# EAGLE library part MSP430G2213IPW28R (library mylbr)
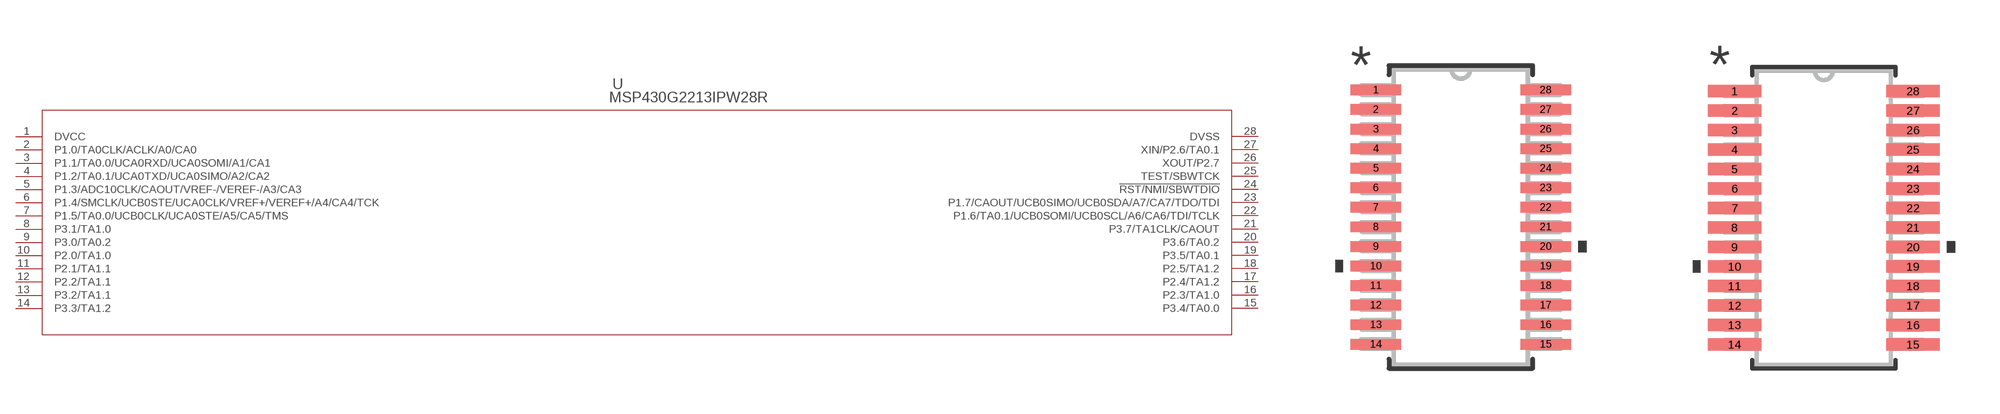
[diagram p5: symbol with the pads of PW28; footprints PW28, PW28-M]

Designator prefix U

## MSP430G2213IPW28R (BUILT_BY: EMA_UL_Team; MANUFACTURER: Texas Instruments; MANUFACTURER_PART_NUMBER: MSP430G2213IPW28R; VENDOR: Texas Instruments)  [PW28]
1  DVCC  pwr
2  P1.0/TA0CLK/ACLK/A0/CA0
3  P1.1/TA0.0/UCA0RXD/UCA0SOMI/A1/CA1
4  P1.2/TA0.1/UCA0TXD/UCA0SIMO/A2/CA2
5  P1.3/ADC10CLK/CAOUT/VREF-/VEREF-/A3/CA3
6  P1.4/SMCLK/UCB0STE/UCA0CLK/VREF+/VEREF+/A4/CA4/TCK
7  P1.5/TA0.0/UCB0CLK/UCA0STE/A5/CA5/TMS
8  P3.1/TA1.0
9  P3.0/TA0.2
10  P2.0/TA1.0
11  P2.1/TA1.1
12  P2.2/TA1.1
13  P3.2/TA1.1
14  P3.3/TA1.2
15  P3.4/TA0.0
16  P2.3/TA1.0
17  P2.4/TA1.2
18  P2.5/TA1.2
19  P3.5/TA0.1
20  P3.6/TA0.2
21  P3.7/TA1CLK/CAOUT
22  P1.6/TA0.1/UCB0SOMI/UCB0SCL/A6/CA6/TDI/TCLK
23  P1.7/CAOUT/UCB0SIMO/UCB0SDA/A7/CA7/TDO/TDI
24  !RST/NMI/SBWTDIO
25  TEST/SBWTCK
26  XOUT/P2.7
27  XIN/P2.6/TA0.1
28  DVSS  pwr

## MSP430G2213IPW28RPW28-M (BUILT_BY: EMA_UL_Team; MANUFACTURER: Texas Instruments; MANUFACTURER_PART_NUMBER: MSP430G2213IPW28R; VENDOR: Texas Instruments)  [PW28-M]
Pads as for PW28

## MSP430G2213IPW28RPW28-L (BUILT_BY: EMA_UL_Team; MANUFACTURER: Texas Instruments; MANUFACTURER_PART_NUMBER: MSP430G2213IPW28R; VENDOR: Texas Instruments)  [PW28-L]
Pads as for PW28

## Footprint PW28 (pad centres in mm)
smd 1.676 x 0.356: 1 -2.819,4.225; 2 -2.819,3.575; 3 -2.819,2.925; 4 -2.819,2.275; 5 -2.819,1.625; 6 -2.819,0.975; 7 -2.819,0.325; 8 -2.819,-0.325; 9 -2.819,-0.975; 10 -2.819,-1.625; 11 -2.819,-2.275; 12 -2.819,-2.925; 13 -2.819,-3.575; 14 -2.819,-4.225; 15 2.819,-4.225; 16 2.819,-3.575; 17 2.819,-2.925; 18 2.819,-2.275; 19 2.819,-1.625; 20 2.819,-0.975; 21 2.819,-0.325; 22 2.819,0.325; 23 2.819,0.975; 24 2.819,1.625; 25 2.819,2.275; 26 2.819,2.925; 27 2.819,3.575; 28 2.819,4.225

## Footprint PW28-M (pad centres in mm)
smd 1.778 x 0.406: 1 -2.972,4.225; 2 -2.972,3.575; 3 -2.972,2.925; 4 -2.972,2.275; 5 -2.972,1.625; 6 -2.972,0.975; 7 -2.972,0.325; 8 -2.972,-0.325; 9 -2.972,-0.975; 10 -2.972,-1.625; 11 -2.972,-2.275; 12 -2.972,-2.925; 13 -2.972,-3.575; 14 -2.972,-4.225; 15 2.972,-4.225; 16 2.972,-3.575; 17 2.972,-2.925; 18 2.972,-2.275; 19 2.972,-1.625; 20 2.972,-0.975; 21 2.972,-0.325; 22 2.972,0.325; 23 2.972,0.975; 24 2.972,1.625; 25 2.972,2.275; 26 2.972,2.925; 27 2.972,3.575; 28 2.972,4.225

## Footprint PW28-L (pad centres in mm)
smd 1.168 x 0.305: 1 -2.87,4.225; 2 -2.87,3.575; 3 -2.87,2.925; 4 -2.87,2.275; 5 -2.87,1.625; 6 -2.87,0.975; 7 -2.87,0.325; 8 -2.87,-0.325; 9 -2.87,-0.975; 10 -2.87,-1.625; 11 -2.87,-2.275; 12 -2.87,-2.925; 13 -2.87,-3.575; 14 -2.87,-4.225; 15 2.87,-4.225; 16 2.87,-3.575; 17 2.87,-2.925; 18 2.87,-2.275; 19 2.87,-1.625; 20 2.87,-0.975; 21 2.87,-0.325; 22 2.87,0.325; 23 2.87,0.975; 24 2.87,1.625; 25 2.87,2.275; 26 2.87,2.925; 27 2.87,3.575; 28 2.87,4.225